# Altium footprint library Driver.PcbLib: 28 footprints (part 2 of 2)
Each footprint in its own frame and in the unit in brackets; x right, y up, seen from the top. Pads: shape width x height; smd on the part's side, far side on the other; paste and mask are expansions set on the pad; w line width, h text height; cw(c..) or ccw(c..) is an arc to the next point about the centre after c.
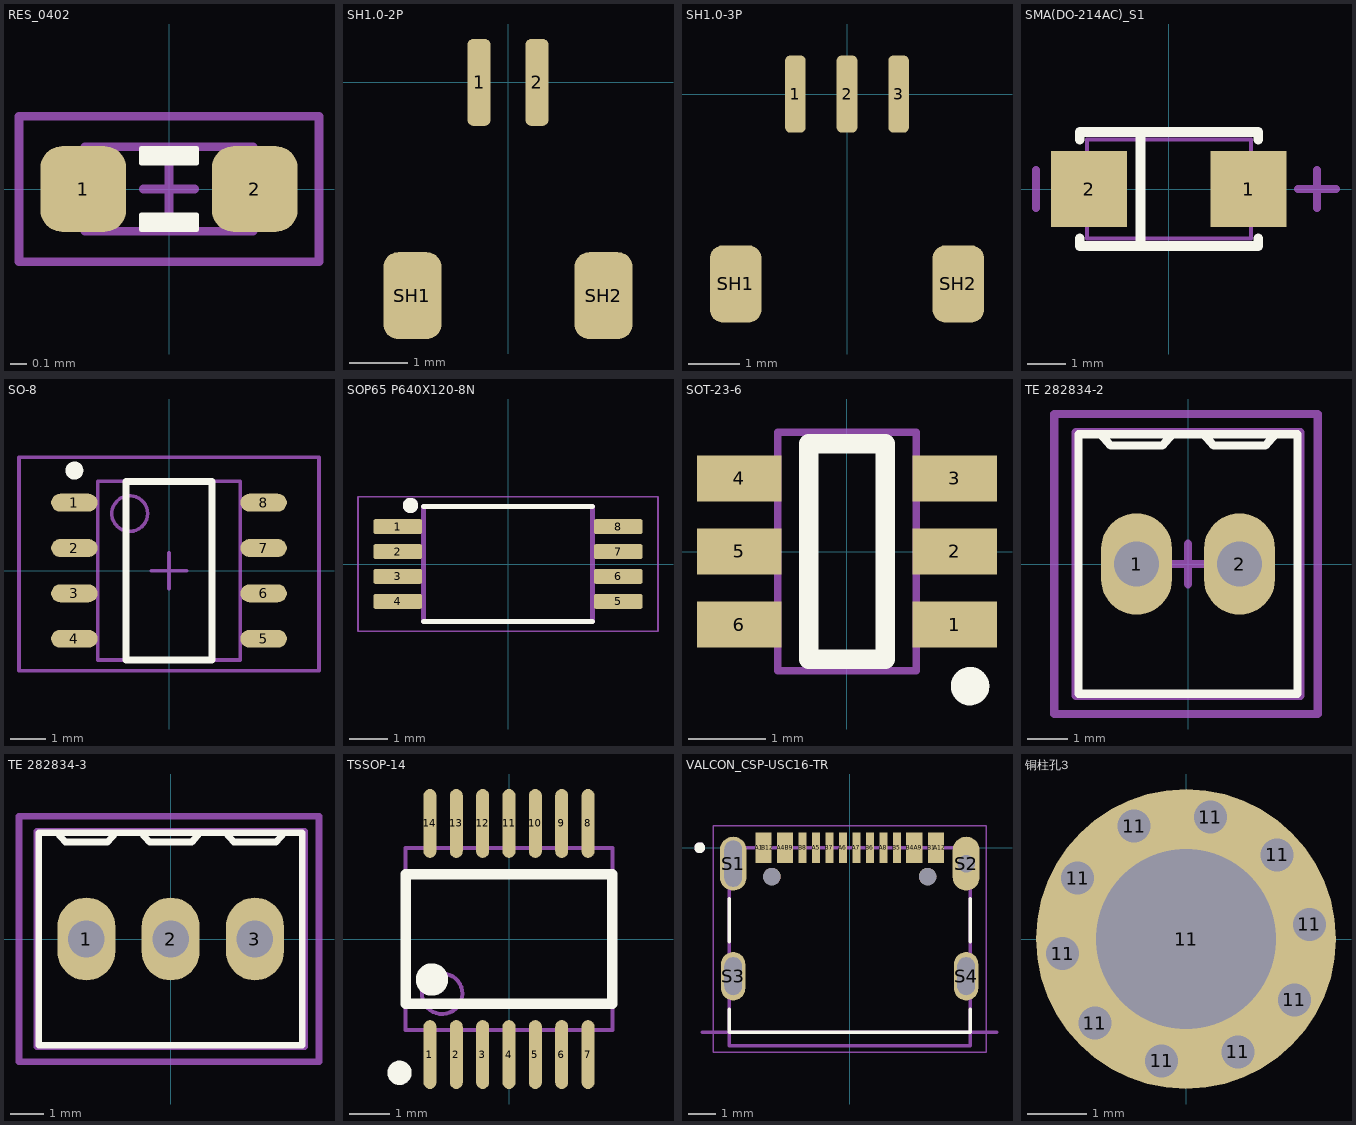
[diagram p1: the footprints below, top view; thin cyan lines are the x and y axes]

## RES_0402 [mil]
pads (2):
  rrect50% 20x20 smd: 1(-20,0) 2(20,0)
Top Overlay:
  region: 6.5,-9.5 -6.5,-9.5 -6.5,-6 6.5,-6
  region: -6.5,9.5 6.5,9.5 6.5,6 -6.5,6
  lines w1: -6.5,-9.5 6.5,-9.5 6.5,-6 -6.5,-6 -6.5,-9.5 ; -6.5,6 -6.5,9.5 6.5,9.5 6.5,6 -6.5,6
Mechanical 13:
  lines w2: -6,0 6,0 ; 0,-6 0,6 ; -19.69,-9.84 -19.69,9.84 19.68,9.84 19.68,-9.84 -19.69,-9.84
Mechanical 14:
  lines w2: -35,-17 35,-17 35,17 -35,17 -35,-17
3D body "RESC1005X03L.step": height 13.78, standoff 0, extent -19.68,-9.84 19.69,9.85

## SH1.0-2P [mm]
pads (4):
  rrect50% 0.4x1.5 smd: 1(-0.5,0) 2(0.5,0)
  rrect50% 1x1.5 smd: SH1(-1.651,-3.683) SH2(1.651,-3.683)
3D body "2.step": height 3.06, standoff -0.08, extent -2,-4.416 2,0.544

## SH1.0-3P [mm]
pads (5):
  rrect50% 0.4x1.5 smd: 1(-1,0) 2(0,0) 3(1,0)
  rrect50% 1x1.5 smd: SH1(-2.159,-3.683) SH2(2.159,-3.683)
3D body "3.step": height 3.06, standoff -0.08, extent -2.5,-4.416 2.5,0.544

## SMA(DO-214AC)_S1 [mm]
pads (2):
  rect 2x2 smd: 1(2.1,0) 2(-2.1,0)
Top Overlay:
  lines w0.254: -2.35,-1.3 -2.35,-1.5 2.35,-1.5 2.35,-1.3 ; -2.35,1.3 -2.35,1.5 2.35,1.5 2.35,1.3 ; -0.75,-1.5 -0.75,1.5
Mechanical 13:
  lines w0.1: -2.16,-1.3 -2.16,1.3 2.16,1.3 2.16,-1.3 -2.16,-1.3
Mechanical 15:
  lines w0.203: -3.5,-0.5 -3.5,0.5 ; 3.4,0 4.4,0 ; 3.9,-0.5 3.9,0.5
3D body "User Library-DO-214AC SMA.STEP": height 2.4, standoff 0, extent -2.6,-1.3 2.6,1.3

## SO-8 [mm]
pads (8):
  oval 1.3x0.5 smd: 1(-2.65,1.905) 2(-2.65,0.635) 3(-2.65,-0.635) 4(-2.65,-1.905) 5(2.65,-1.905) 6(2.65,-0.635) 7(2.65,0.635) 8(2.65,1.905)
Top Overlay:
  circle w0.25: c-2.65,2.805 r0.125
  lines w0.2: -1.2,-2.5 1.2,-2.5 1.2,2.5 -1.2,2.5 -1.2,-2.5
Mechanical 13:
  circle w0.1: c-1.1,1.6 r0.5
  lines w0.1: -2,-2.5 2,-2.5 2,2.5 -2,2.5 -2,-2.5
Mechanical 15:
  lines w0.1: -0.5,0 0.5,0 ; 0,-0.5 0,0.5 ; -4.2,-2.8 4.2,-2.8 4.2,3.175 -4.2,3.175 -4.2,-2.8
3D body "SW3DPS-SO-8-DEFAULT.STEP": height 1.45, standoff 0, extent -2.889,-2.439 2.889,2.464

## SOP65 P640X120-8N [mm]
pads (8):
  rrect25% 1.27x0.381 smd: 1(-2.87,0.975) 2(-2.87,0.325) 3(-2.87,-0.325) 4(-2.87,-0.975) 5(2.87,-0.975) 6(2.87,-0.325) 7(2.87,0.325) 8(2.87,0.975)
Top Overlay:
  circle w0.2: c-2.54,1.524 r0.1
  lines w0.127: -2.2,-1.5 2.2,-1.5 ; -2.2,1.5 2.2,1.5
Mechanical 13:
  circle w0.2: c-2.54,1.524 r0.1
  lines w0.127: -2.2,-1.5 -2.2,1.5 2.2,1.5 2.2,-1.5 -2.2,-1.5
Mechanical 15:
  lines w0.05: -3.905,-1.75 -3.905,1.75 3.905,1.75 3.905,-1.75 -3.905,-1.75
3D body "step_temp.STEP": height 1.2, standoff 0, extent -3.2,-1.5 3.2,1.5

## SOT-23-6 [mm]
pads (6):
  rect 1.1x0.6 smd: 1(1.4,-0.95) 2(1.4,0) 3(1.4,0.95) 4(-1.4,0.95) 5(-1.4,0) 6(-1.4,-0.95)
Top Overlay:
  circle w0.25: c1.6,-1.75 r0.125
  lines w0.254: -0.5,-1.4 -0.5,1.4 0.5,1.4 0.5,-1.4 -0.5,-1.4
Mechanical 13:
  lines w0.1: -0.9,-1.55 -0.9,1.55 0.9,1.55 0.9,-1.55 -0.9,-1.55
3D body "usblc6-2sc6y.stp": height 1.18, standoff 0, extent -1.4,-1.4 1.4,1.496

## TE 282834-2 [mm]
pads (2):
  oval 1.75x2.5 hole 1.1: 1(-1.27,0) 2(1.27,0)
Top Overlay:
  lines w0.2: -2.159,3.2 -1.905,2.921 -0.635,2.921 -0.381,3.2 ; 0.381,3.2 0.635,2.921 1.905,2.921 2.159,3.2 ; -2.7,-3.2 -2.7,3.2 2.7,3.2 2.7,-3.2 -2.6,-3.2 -2.7,-3.2
Mechanical 13:
  lines w0.2: -2.77,-3.25 2.77,-3.25 2.77,3.25 -2.77,3.25 -2.77,-3.25
Mechanical 15:
  lines w0.2: -0.5,0 0.5,0 ; 0,-0.5 0,0.5 ; -3.3,-3.7 -3.3,-3.3 -3.3,3.7 3.2,3.7 3.2,-2.9 3.2,-3.7 -3.3,-3.7
3D body "TE Term Block 2port 282834-2-c-3d.STEP": height 10, standoff -3.4, extent -2.77,-3.25 2.77,3.25

## TE 282834-3 [mm]
pads (3):
  oval 1.75x2.5 hole 1.1: 1(-2.54,0) 2(0,0) 3(2.54,0)
Top Overlay:
  lines w0.2: -3.429,3.2 -3.175,2.921 -1.905,2.921 -1.651,3.2 ; -0.889,3.2 -0.635,2.921 0.635,2.921 0.889,3.2 ; 1.651,3.2 1.905,2.921 3.175,2.921 3.429,3.2 ; -3.97,-3.2 -3.97,3.2 3.97,3.2 3.97,-3.2 -3.87,-3.2 -3.97,-3.2
Mechanical 13:
  lines w0.2: -4.04,-3.25 4.04,-3.25 4.04,3.25 -4.04,3.25 -4.04,-3.25
Mechanical 15:
  lines w0.2: -0.5,0 0.5,0 ; 0,-0.5 0,0.5 ; -4.57,-3.7 -4.57,-3.3 -4.57,3.7 4.47,3.7 4.47,-2.9 4.47,-3.7 -4.57,-3.7
3D body "TE Term Block 3port 282834-3-c-3d.STEP": height 10, standoff -3.4, extent -4.04,-3.25 4.04,3.25

## TSSOP-14 [mm]
pads (14):
  oval 0.32x1.7 smd: 1(-1.95,-2.85) 2(-1.3,-2.85) 3(-0.65,-2.85) 4(0,-2.85) 5(0.65,-2.85) 6(1.3,-2.85) 7(1.95,-2.85) 8(1.95,2.85) 9(1.3,2.85) 10(0.65,2.85) 11(0,2.85) 12(-0.65,2.85) 13(-1.3,2.85) 14(-1.95,2.85)
Top Overlay:
  circle w0.4: c-1.9,-1 r0.2
  circle w0.3: c-2.7,-3.3 r0.15
  lines w0.254: -2.55,-1.6 2.55,-1.6 2.55,1.6 -2.55,1.6 -2.55,-1.6
Mechanical 13:
  circle w0.1: c-1.65,-1.35 r0.5
  lines w0.1: -2.55,-2.25 2.55,-2.25 2.55,2.25 -2.55,2.25 -2.55,-2.25
3D body "TSSOP-14.STEP": height 1.2, standoff 0, extent -2.5,-3.2 2.5,3.2

## VALCON_CSP-USC16-TR [mm]
pads (22):
  rect 0.3x1.14 smd: A1(-3.35,0) A4(-2.55,0) A5(-1.25,0) A6(-0.25,0) A7(0.25,0) A8(1.25,0) A9(2.55,0) A12(3.35,0) B1(3.05,0) B4(2.25,0) B5(1.75,0) B6(0.75,0) B7(-0.75,0) B8(-1.75,0) B9(-2.25,0) B12(-3.05,0)
  oval 1x2 hole 0.65 slot 1.72 at 90 deg: S1(-4.325,-0.59)
  oval 1x2 hole 0.65: S2(4.325,-0.59)
  oval 0.9x1.8 hole 0.65 slot 1.4 at 90 deg: S3(-4.325,-4.77) S4(4.325,-4.77)
  round 0.65 hole 0.65 unplated: ""(-2.89,-1.07) ""(2.89,-1.07)
Top Overlay:
  circle w0.2: c-5.57,0 r0.1
  lines w0.127: -4.47,-6 -4.47,-6.86 4.47,-6.86 4.47,-6 ; -4.47,-3.5 -4.47,-1.9 ; 4.47,-3.5 4.47,-1.9
Mechanical 1:
  lines w0: 4,-0.093 cw(c4.335,-0.075) 4.317,0.26 cw(c4.335,-0.055) 4.65,-0.038 ; 4,-0.09 4,-1.14 ccw(c4.31,-1.13) 4.321,-1.44 ; 4.318,-1.44 ccw(c4.335,-1.125) 4.65,-1.142 ; 4.65,-1.14 4.65,-0.04
Mechanical 13:
  circle w0.2: c-5.57,0 r0.1
  lines w0.127: -5.47,-6.86 5.47,-6.86 ; -4.47,-7.35 -4.47,0 4.47,0 4.47,-7.35 -4.47,-7.35
  text "PCB Edge" at -2.07,-6.6 h0.7
Mechanical 15:
  lines w0.05: -5.07,-7.6 -5.07,0.82 5.07,0.82 5.07,-7.6 -5.07,-7.6
3D body "step_temp.STEP": height 3.26, standoff -1, extent -4.47,-6.28 4.47,1.47

## 铜柱孔3 [mil]
pads (11):
  round 23 hole 22: 11(-82.21,-9.67) 11(-72.19,40.5) 11(-60.83,-56.14) 11(-34.6,75.2) 11(-16.21,-81.17) 11(16.21,81.17) 11(34.6,-75.2) 11(60.83,56.14) 11(72.19,-40.5) 11(82.21,9.67)
  round 200 hole 120: 11(0,0)